# EAGLE library part 68800911722 (library Wire-to-Board (rev18a))
WR-WTB 2.50mm "J"Type Male Horizontal Shrouded Header, 9 Pins=>Code : WTB_2.50-J_PCB_THT_68800911722 <http://katalog.we-online.de/media/thumbs2/eican/thb_Con_WTB_2.50-J_PCB_THT_6880xx11722_pf2%20(2).jpg> Details see: http://katalog.we-online.de/en/em/WTB_2_50_J_TYPE_HORIZONTAL_MALE_SHROUDED_HEADER_6880XX11722 Created 2014-06-05, Karrer Zheng 2014 (C) Würth Elektronik
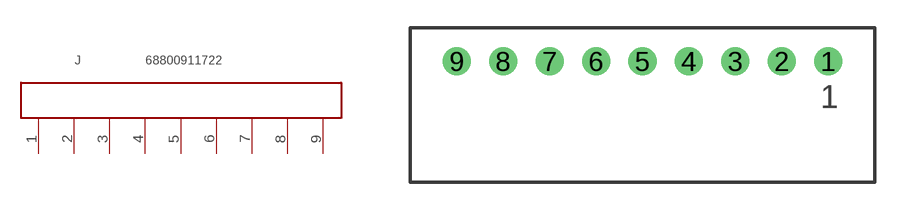
[diagram p21: symbol with the pads of 68800911722; footprint 68800911722]

Designator prefix J

## 68800911722  [68800911722]
1  9  pas
2  8  pas
3  7  pas
4  6  pas
5  5  pas
6  4  pas
7  3  pas
8  2  pas
9  1  pas

## Footprint 68800911722 (pad centres in mm)
WR-WTB 2.50mm "J" Type Male Horizontal Shrouded Header, 9 Pins
drill 1: 1 10,2.35; 2 7.5,2.35; 3 5,2.35; 4 2.5,2.35; 5 0,2.35; 6 -2.5,2.35; 7 -5,2.35; 8 -7.5,2.35; 9 -10,2.35